# Altium footprint library CAPPOL_SMD_SIZE_D.PcbLib: 1 footprints
Each footprint in its own frame and in the unit in brackets; x right, y up, seen from the top. Pads: shape width x height; smd on the part's side, far side on the other; paste and mask are expansions set on the pad; w line width, h text height; cw(c..) or ccw(c..) is an arc to the next point about the centre after c.
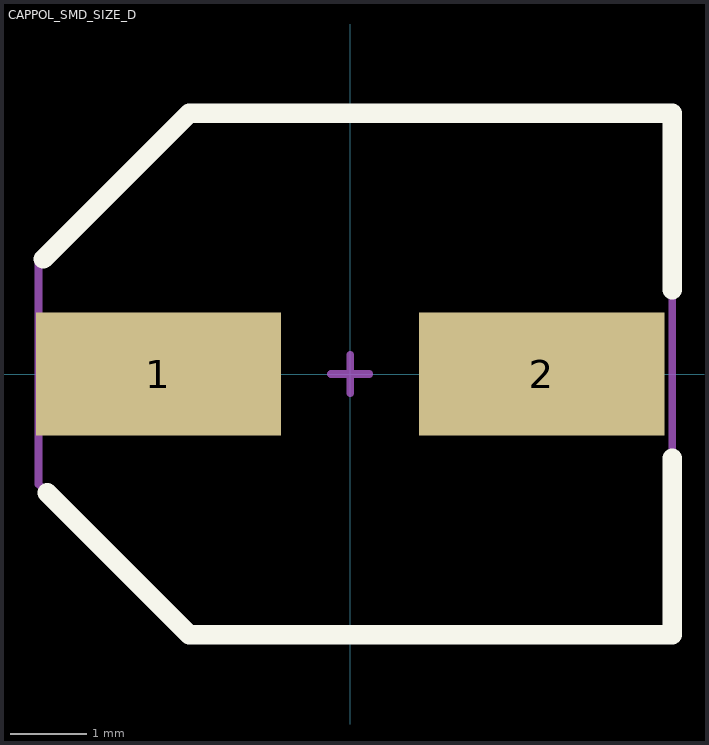
[diagram p0: the footprint, top view; thin cyan lines are the x and y axes]

## CAPPOL_SMD_SIZE_D [mm]
height 0.95
pads (2):
  rect 3.2x1.6 smd: 1(-2.5,0) 2(2.5,0)
Top Overlay:
  lines w0.254: -4,1.5 -2.1,3.4 4.2,3.4 4.2,1.1 ; -3.95,-1.55 -2.1,-3.4 4.2,-3.4 4.2,-1.1
Top Assembly:
  lines w0.1: -0.25,0 0.25,0 ; 0,-0.25 0,0.25 ; -4.064,-1.436 -2.1,-3.4 4.2,-3.4 4.2,3.4 -2.1,3.4 -4.064,1.436 -4.064,-1.436
  text "'.Designator'" at 0,0 h0.7
3D body "User Library-capacitor size D.STEP": height 5.41, standoff -0.01, extent -3.5,-3.3 3.5,3.3